# Altium footprint library 0603SB.PcbLib: 1 footprints
Each footprint in its own frame and in the unit in brackets; x right, y up, seen from the top. Pads: shape width x height; smd on the part's side, far side on the other; paste and mask are expansions set on the pad; w line width, h text height; cw(c..) or ccw(c..) is an arc to the next point about the centre after c.
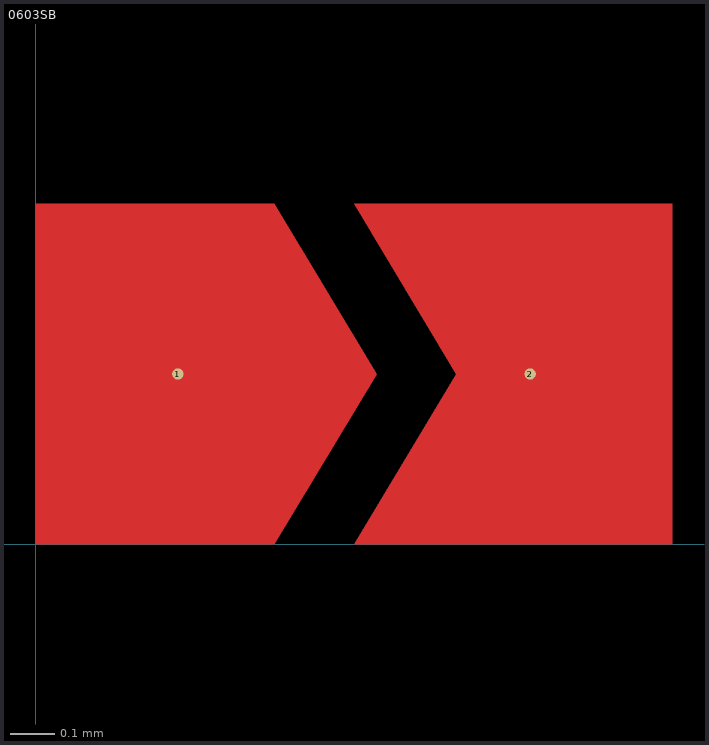
[diagram p0: the footprint, top view; thin cyan lines are the x and y axes]

## 0603SB [mil]
pads (2):
  round 1 smd: 1(12.5,15) 2(43.5,15)
Top Layer:
  region: 28,30 37,15 28,0 56,0 56,30
  region: 0,30 0,0 21,0 30,15 21,30
Top Solder:
  rectangle: 7,-4 47,34
3D body: height 7, standoff 0, extent 10,0 40,30